# Altium schematic symbol library USB-TYPE-C-16P.SchLib: 1 symbol
Pins are listed as number, name and electrical type; pins without a type are passive.

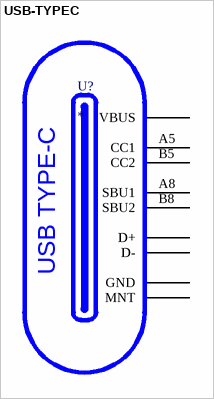
[diagram p0: symbol USB-TYPEC]

## USB-TYPEC
designator U?
USB 3.1 Type-C 16 Pin SMD
footprint USB-TYPE-C-16P (USB 3.1 Type-C 16 Pin SMD)
pins: 1 MNT, 2 MNT, 3 MNT, 4 MNT, A1 GND, A4 VBUS, A5 CC1, A6 D+, A7 D-, A8 SBU1, A9 VBUS, A12 GND, B1 GND, B4 VBUS, B5 CC2, B6 D+, B7 D-, B8 SBU2, B9 VBUS, B12 GND
text: USB TYPE-C